# Altium integrated library NSC ADC.IntLib: 493 symbols (part 9 of 17)
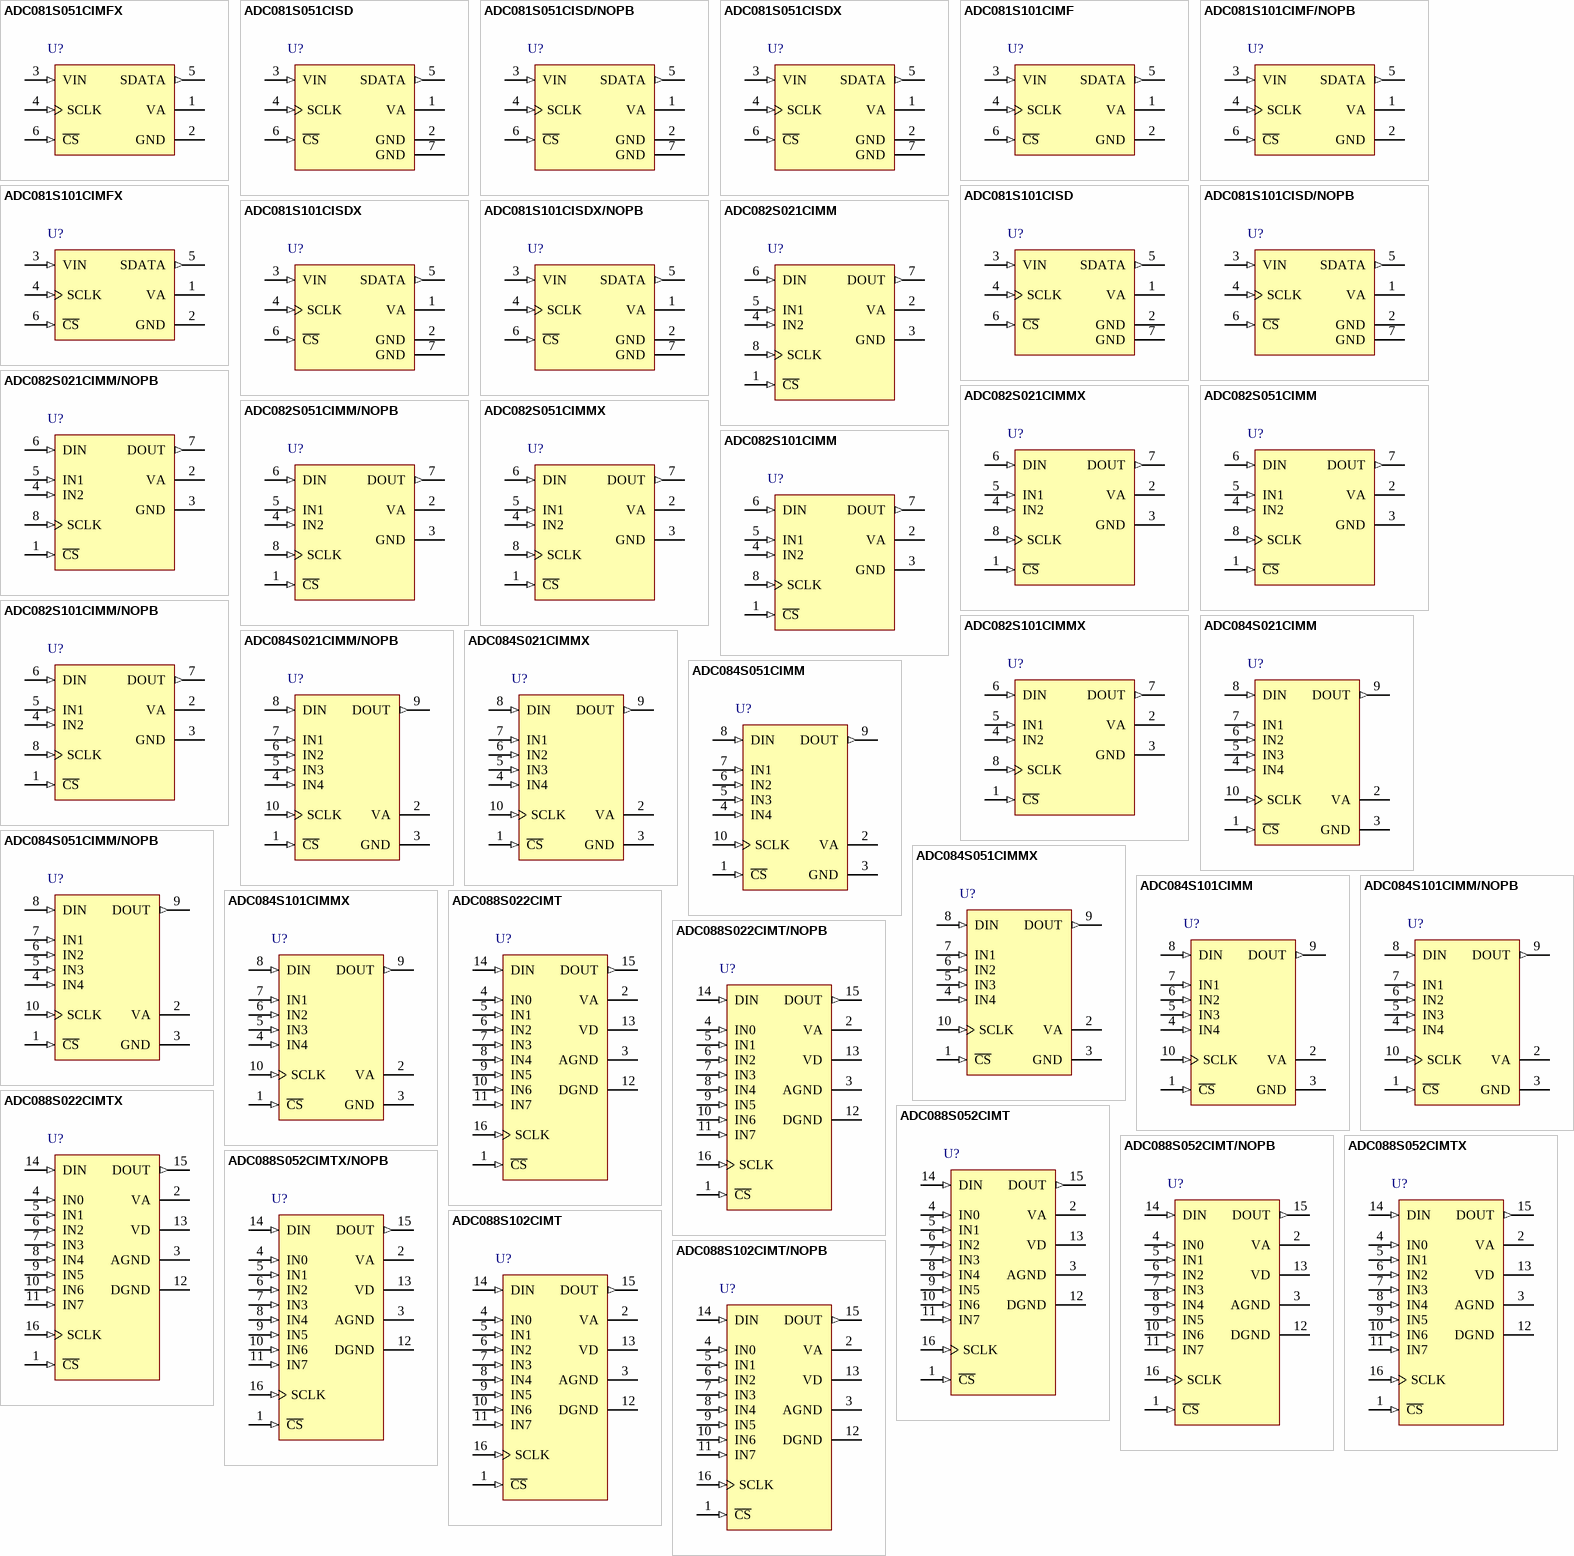
[diagram p44: symbols ADC081S051CIMFX to ADC088S102CIMT/NOPB]

## ADC084S101CIMM
designator U?
4 Channel, 1 MSPS, 8-Bit A/D Converter, 10-pin MSOP; PartNumber: ADC084S101CIMM; Manufacturer: National Semiconductor; PackageTopMarking: ZXTT*X25C; PowerWise: Y; CompType: ADC IC; Published: 4-Dec-2008; DatasheetVersion: Feb-2010; PackageVersion: revB, Jul-2003; PackageReference: MUB10A; Publisher: Altium Limited; PackageDescription: Mini-SO, Molded, .118 x .118 x .034in Body, 10 Lead, .0197in Pitch; Supplier 1: Farnell; Supplier Part Number 1: 1007984; RoHS: N; PinCount: 10; Code_JEDEC: MO-187-BA; ComponentLink1Description: ADC084S101 Datasheet; ComponentLink1URL: http://www.national.com/ds/AD/ADC084S101.pdf; ComponentLink2Description: ADC084S101 Web Page; ComponentLink2URL: http://www.national.com/pf/AD/ADC084S101.html; ComponentLink3Description: MUB10A Package Page; ComponentLink3URL: http://www.national.com/packaging/folders/mub10a.html
footprint MUB10A_N (TSSOP, 10-Leads, Body 3x3mm, Pitch 0.5mm, IPC Medium Density)
footprint MUB10A_L (TSSOP, 10-Leads, Body 3x3mm, Pitch 0.5mm, IPC High Density)
footprint MUB10A_M (TSSOP, 10-Leads, Body 3x3mm, Pitch 0.5mm, IPC Low Density)
pins: 1 ~{CS} (in), 2 VA (power), 3 GND (power), 4 IN4 (in), 5 IN3 (in), 6 IN2 (in), 7 IN1 (in), 8 DIN (in), 9 DOUT (out), 10 SCLK (in)

## ADC084S101CIMM/NOPB
designator U?
4 Channel, 500 kSPS to 1 MSPS, 8-Bit A/D Converter, 10-pin Mini SOIC, Pb-Free; PartNumber: ADC084S101CIMM/NOPB; Manufacturer: National Semiconductor; PackageTopMarking: ZXTT*X25C; PowerWise: Y; CompType: ADC IC; Published: 1-Mar-2010; DatasheetVersion: Feb-2010; PackageVersion: revB, Jul-2003; PackageReference: MUB10A; Publisher: Altium Limited; PackageDescription: Mini-SO, Molded, .118 x .118 x .034in Body, 10 Lead, .0197in Pitch; Supplier 1: Digi-Key; Supplier Part Number 1: ADC084S101CIMMTR-ND; Supplier 2: Digi-Key; Supplier Part Number 2: ADC084S101CIMMCT-ND; Supplier 3: Digi-Key; Supplier Part Number 3: ADC084S101CIMMDKR-ND; Supplier 4: Farnell; Supplier Part Number 4: 1149929; RoHS: Y; PinCount: 10; Code_JEDEC: MO-187-BA; ComponentLink1Description: ADC084S101 Datasheet; ComponentLink1URL: http://www.national.com/ds/AD/ADC084S101.pdf; ComponentLink2Description: ADC084S101 Web Page; ComponentLink2URL: http://www.national.com/pf/AD/ADC084S101.html; ComponentLink3Description: MUB10A Package Page; ComponentLink3URL: http://www.national.com/packaging/folders/mub10a.html
footprint MUB10A_N (TSSOP, 10-Leads, Body 3x3mm, Pitch 0.5mm, IPC Medium Density)
footprint MUB10A_L (TSSOP, 10-Leads, Body 3x3mm, Pitch 0.5mm, IPC High Density)
footprint MUB10A_M (TSSOP, 10-Leads, Body 3x3mm, Pitch 0.5mm, IPC Low Density)
pins: 1 ~{CS} (in), 2 VA (power), 3 GND (power), 4 IN4 (in), 5 IN3 (in), 6 IN2 (in), 7 IN1 (in), 8 DIN (in), 9 DOUT (out), 10 SCLK (in)

## ADC084S101CIMMX
designator U?
4 Channel, 500 kSPS to 1 MSPS, 8-Bit A/D Converter, 10-pin Mini SOIC; PartNumber: ADC084S101CIMMX; Manufacturer: National Semiconductor; PackageTopMarking: ZXTT*X25C; PowerWise: Y; CompType: ADC IC; Published: 1-Mar-2010; DatasheetVersion: Feb-2010; PackageVersion: revB, Jul-2003; PackageReference: MUB10A; Publisher: Altium Limited; PackageDescription: Mini-SO, Molded, .118 x .118 x .034in Body, 10 Lead, .0197in Pitch; RoHS: N; PinCount: 10; Code_JEDEC: MO-187-BA; ComponentLink1Description: ADC084S101 Datasheet; ComponentLink1URL: http://www.national.com/ds/AD/ADC084S101.pdf; ComponentLink2Description: ADC084S101 Web Page; ComponentLink2URL: http://www.national.com/pf/AD/ADC084S101.html; ComponentLink3Description: MUB10A Package Page; ComponentLink3URL: http://www.national.com/packaging/folders/mub10a.html
footprint MUB10A_N (TSSOP, 10-Leads, Body 3x3mm, Pitch 0.5mm, IPC Medium Density)
footprint MUB10A_L (TSSOP, 10-Leads, Body 3x3mm, Pitch 0.5mm, IPC High Density)
footprint MUB10A_M (TSSOP, 10-Leads, Body 3x3mm, Pitch 0.5mm, IPC Low Density)
pins: 1 ~{CS} (in), 2 VA (power), 3 GND (power), 4 IN4 (in), 5 IN3 (in), 6 IN2 (in), 7 IN1 (in), 8 DIN (in), 9 DOUT (out), 10 SCLK (in)

## ADC088S022CIMT
designator U?
8-Channel, 50 kSPS to 200 kSPS, 8-Bit A/D Converter, 16-pin TSSOP; PartNumber: ADC088S022CIMT; Manufacturer: National Semiconductor; PackageTopMarking: NSUZXYTT*88S022*CIMT; PowerWise: Y; CompType: ADC IC; Published: 4-Dec-2008; DatasheetVersion: Feb-2010; PackageVersion: revD, Jun-2003; PackageReference: MTC16; Publisher: Altium Limited; PackageDescription: Molded TSSOP, Jedec, 5 x 4.4 x 0.9mm Body, 16 Lead, 0.65mm Pitch; Supplier 1: Farnell; Supplier Part Number 1: 1250037; RoHS: N; PinCount: 16; Code_JEDEC: MO-153-AB; ComponentLink1Description: ADC088S022 Datasheet; ComponentLink1URL: http://www.national.com/ds/AD/ADC088S022.pdf; ComponentLink2Description: ADC088S022 Web Page; ComponentLink2URL: http://www.national.com/pf/AD/ADC088S022.html; ComponentLink3Description: MTC16 Package Page; ComponentLink3URL: http://www.national.com/packaging/folders/mtc16.html
footprint MTC16_N (TSOP, 16-Leads, Body 5x4.4mm, Pitch 0.65mm, IPC Medium Density)
footprint MTC16_L (TSOP, 16-Leads, Body 5x4.4mm, Pitch 0.65mm, IPC High Density)
footprint MTC16_M (TSOP, 16-Leads, Body 5x4.4mm, Pitch 0.65mm, IPC Low Density)
pins: 1 ~{CS} (in), 2 VA (power), 3 AGND (power), 4 IN0 (in), 5 IN1 (in), 6 IN2 (in), 7 IN3 (in), 8 IN4 (in), 9 IN5 (in), 10 IN6 (in), 11 IN7 (in), 12 DGND (power), 13 VD (power), 14 DIN (in), 15 DOUT (out), 16 SCLK (in)

## ADC088S022CIMT/NOPB
designator U?
8-Channel, 50 kSPS to 200 kSPS, 8-Bit A/D Converter, 16-pin TSSOP, Pb-Free; PartNumber: ADC088S022CIMT/NOPB; Manufacturer: National Semiconductor; PackageTopMarking: NSUZXYTT*88S022*CIMT; PowerWise: Y; CompType: ADC IC; Published: 1-Mar-2010; DatasheetVersion: Feb-2010; PackageVersion: revD, Jun-2003; PackageReference: MTC16; Publisher: Altium Limited; PackageDescription: Molded TSSOP, Jedec, 5 x 4.4 x 0.9mm Body, 16 Lead, 0.65mm Pitch; Supplier 1: Digi-Key; Supplier Part Number 1: ADC088S022CIMT-ND; Supplier 2: Farnell; Supplier Part Number 2: 1559822; RoHS: Y; PinCount: 16; Code_JEDEC: MO-153-AB; ComponentLink1Description: ADC088S022 Datasheet; ComponentLink1URL: http://www.national.com/ds/AD/ADC088S022.pdf; ComponentLink2Description: ADC088S022 Web Page; ComponentLink2URL: http://www.national.com/pf/AD/ADC088S022.html; ComponentLink3Description: MTC16 Package Page; ComponentLink3URL: http://www.national.com/packaging/folders/mtc16.html
footprint MTC16_N (TSOP, 16-Leads, Body 5x4.4mm, Pitch 0.65mm, IPC Medium Density)
footprint MTC16_L (TSOP, 16-Leads, Body 5x4.4mm, Pitch 0.65mm, IPC High Density)
footprint MTC16_M (TSOP, 16-Leads, Body 5x4.4mm, Pitch 0.65mm, IPC Low Density)
pins: 1 ~{CS} (in), 2 VA (power), 3 AGND (power), 4 IN0 (in), 5 IN1 (in), 6 IN2 (in), 7 IN3 (in), 8 IN4 (in), 9 IN5 (in), 10 IN6 (in), 11 IN7 (in), 12 DGND (power), 13 VD (power), 14 DIN (in), 15 DOUT (out), 16 SCLK (in)

## ADC088S022CIMTX
designator U?
8-Channel, 50 kSPS to 200 kSPS, 8-Bit A/D Converter, 16-pin TSSOP; PartNumber: ADC088S022CIMTX; Manufacturer: National Semiconductor; PackageTopMarking: NSUZXYTT*88S022*CIMT; PowerWise: Y; CompType: ADC IC; Published: 1-Mar-2010; DatasheetVersion: Feb-2010; PackageVersion: revD, Jun-2003; PackageReference: MTC16; Publisher: Altium Limited; PackageDescription: Molded TSSOP, Jedec, 5 x 4.4 x 0.9mm Body, 16 Lead, 0.65mm Pitch; RoHS: N; PinCount: 16; Code_JEDEC: MO-153-AB; ComponentLink1Description: ADC088S022 Datasheet; ComponentLink1URL: http://www.national.com/ds/AD/ADC088S022.pdf; ComponentLink2Description: ADC088S022 Web Page; ComponentLink2URL: http://www.national.com/pf/AD/ADC088S022.html; ComponentLink3Description: MTC16 Package Page; ComponentLink3URL: http://www.national.com/packaging/folders/mtc16.html
footprint MTC16_N (TSOP, 16-Leads, Body 5x4.4mm, Pitch 0.65mm, IPC Medium Density)
footprint MTC16_L (TSOP, 16-Leads, Body 5x4.4mm, Pitch 0.65mm, IPC High Density)
footprint MTC16_M (TSOP, 16-Leads, Body 5x4.4mm, Pitch 0.65mm, IPC Low Density)
pins: 1 ~{CS} (in), 2 VA (power), 3 AGND (power), 4 IN0 (in), 5 IN1 (in), 6 IN2 (in), 7 IN3 (in), 8 IN4 (in), 9 IN5 (in), 10 IN6 (in), 11 IN7 (in), 12 DGND (power), 13 VD (power), 14 DIN (in), 15 DOUT (out), 16 SCLK (in)

## ADC088S052CIMT
designator U?
8-Channel, 200 kSPS to 500 kSPS, 8-Bit A/D Converter, 16-pin TSSOP; PartNumber: ADC088S052CIMT; Manufacturer: National Semiconductor; PackageTopMarking: NSUZXYTT*088S052*CIMT; PowerWise: Y; CompType: ADC IC; Published: 4-Dec-2008; DatasheetVersion: Feb-2010; PackageVersion: revD, Jun-2003; PackageReference: MTC16; Publisher: Altium Limited; PackageDescription: Molded TSSOP, Jedec, 5 x 4.4 x 0.9mm Body, 16 Lead, 0.65mm Pitch; Supplier 1: Farnell; Supplier Part Number 1: 1250038; RoHS: N; PinCount: 16; Code_JEDEC: MO-153-AB; ComponentLink1Description: ADC088S052 Datasheet; ComponentLink1URL: http://www.national.com/ds/AD/ADC088S052.pdf; ComponentLink2Description: ADC088S052 Web Page; ComponentLink2URL: http://www.national.com/pf/AD/ADC088S052.html; ComponentLink3Description: MTC16 Package Page; ComponentLink3URL: http://www.national.com/packaging/folders/mtc16.html
footprint MTC16_N (TSOP, 16-Leads, Body 5x4.4mm, Pitch 0.65mm, IPC Medium Density)
footprint MTC16_L (TSOP, 16-Leads, Body 5x4.4mm, Pitch 0.65mm, IPC High Density)
footprint MTC16_M (TSOP, 16-Leads, Body 5x4.4mm, Pitch 0.65mm, IPC Low Density)
pins: 1 ~{CS} (in), 2 VA (power), 3 AGND (power), 4 IN0 (in), 5 IN1 (in), 6 IN2 (in), 7 IN3 (in), 8 IN4 (in), 9 IN5 (in), 10 IN6 (in), 11 IN7 (in), 12 DGND (power), 13 VD (power), 14 DIN (in), 15 DOUT (out), 16 SCLK (in)

## ADC088S052CIMT/NOPB
designator U?
8-Channel, 200 kSPS to 500 kSPS, 8-Bit A/D Converter, 16-pin TSSOP, Pb-Free; PartNumber: ADC088S052CIMT/NOPB; Manufacturer: National Semiconductor; PackageTopMarking: NSUZXYTT*088S052*CIMT; PowerWise: Y; CompType: ADC IC; Published: 1-Mar-2010; DatasheetVersion: Feb-2010; PackageVersion: revD, Jun-2003; PackageReference: MTC16; Publisher: Altium Limited; PackageDescription: Molded TSSOP, Jedec, 5 x 4.4 x 0.9mm Body, 16 Lead, 0.65mm Pitch; Supplier 1: Digi-Key; Supplier Part Number 1: ADC088S052CIMT-ND; RoHS: Y; PinCount: 16; Code_JEDEC: MO-153-AB; ComponentLink1Description: ADC088S052 Datasheet; ComponentLink1URL: http://www.national.com/ds/AD/ADC088S052.pdf; ComponentLink2Description: ADC088S052 Web Page; ComponentLink2URL: http://www.national.com/pf/AD/ADC088S052.html; ComponentLink3Description: MTC16 Package Page; ComponentLink3URL: http://www.national.com/packaging/folders/mtc16.html
footprint MTC16_N (TSOP, 16-Leads, Body 5x4.4mm, Pitch 0.65mm, IPC Medium Density)
footprint MTC16_L (TSOP, 16-Leads, Body 5x4.4mm, Pitch 0.65mm, IPC High Density)
footprint MTC16_M (TSOP, 16-Leads, Body 5x4.4mm, Pitch 0.65mm, IPC Low Density)
pins: 1 ~{CS} (in), 2 VA (power), 3 AGND (power), 4 IN0 (in), 5 IN1 (in), 6 IN2 (in), 7 IN3 (in), 8 IN4 (in), 9 IN5 (in), 10 IN6 (in), 11 IN7 (in), 12 DGND (power), 13 VD (power), 14 DIN (in), 15 DOUT (out), 16 SCLK (in)

## ADC088S052CIMTX
designator U?
8-Channel, 200 kSPS to 500 kSPS, 8-Bit A/D Converter, 16-pin TSSOP; PartNumber: ADC088S052CIMTX; Manufacturer: National Semiconductor; PackageTopMarking: NSUZXYTT*088S052*CIMT; PowerWise: Y; CompType: ADC IC; Published: 1-Mar-2010; DatasheetVersion: Feb-2010; PackageVersion: revD, Jun-2003; PackageReference: MTC16; Publisher: Altium Limited; PackageDescription: Molded TSSOP, Jedec, 5 x 4.4 x 0.9mm Body, 16 Lead, 0.65mm Pitch; RoHS: N; PinCount: 16; Code_JEDEC: MO-153-AB; ComponentLink1Description: ADC088S052 Datasheet; ComponentLink1URL: http://www.national.com/ds/AD/ADC088S052.pdf; ComponentLink2Description: ADC088S052 Web Page; ComponentLink2URL: http://www.national.com/pf/AD/ADC088S052.html; ComponentLink3Description: MTC16 Package Page; ComponentLink3URL: http://www.national.com/packaging/folders/mtc16.html
footprint MTC16_N (TSOP, 16-Leads, Body 5x4.4mm, Pitch 0.65mm, IPC Medium Density)
footprint MTC16_L (TSOP, 16-Leads, Body 5x4.4mm, Pitch 0.65mm, IPC High Density)
footprint MTC16_M (TSOP, 16-Leads, Body 5x4.4mm, Pitch 0.65mm, IPC Low Density)
pins: 1 ~{CS} (in), 2 VA (power), 3 AGND (power), 4 IN0 (in), 5 IN1 (in), 6 IN2 (in), 7 IN3 (in), 8 IN4 (in), 9 IN5 (in), 10 IN6 (in), 11 IN7 (in), 12 DGND (power), 13 VD (power), 14 DIN (in), 15 DOUT (out), 16 SCLK (in)

## ADC088S052CIMTX/NOPB
designator U?
8-Channel, 200 kSPS to 500 kSPS, 8-Bit A/D Converter, 16-pin TSSOP, Pb-Free; PartNumber: ADC088S052CIMTX/NOPB; Manufacturer: National Semiconductor; PackageTopMarking: NSUZXYTT*088S052*CIMT; PowerWise: Y; CompType: ADC IC; Published: 1-Mar-2010; DatasheetVersion: Feb-2010; PackageVersion: revD, Jun-2003; PackageReference: MTC16; Publisher: Altium Limited; PackageDescription: Molded TSSOP, Jedec, 5 x 4.4 x 0.9mm Body, 16 Lead, 0.65mm Pitch; Supplier 1: Digi-Key; Supplier Part Number 1: ADC088S052CIMTX-ND; RoHS: Y; PinCount: 16; Code_JEDEC: MO-153-AB; ComponentLink1Description: ADC088S052 Datasheet; ComponentLink1URL: http://www.national.com/ds/AD/ADC088S052.pdf; ComponentLink2Description: ADC088S052 Web Page; ComponentLink2URL: http://www.national.com/pf/AD/ADC088S052.html; ComponentLink3Description: MTC16 Package Page; ComponentLink3URL: http://www.national.com/packaging/folders/mtc16.html
footprint MTC16_N (TSOP, 16-Leads, Body 5x4.4mm, Pitch 0.65mm, IPC Medium Density)
footprint MTC16_L (TSOP, 16-Leads, Body 5x4.4mm, Pitch 0.65mm, IPC High Density)
footprint MTC16_M (TSOP, 16-Leads, Body 5x4.4mm, Pitch 0.65mm, IPC Low Density)
pins: 1 ~{CS} (in), 2 VA (power), 3 AGND (power), 4 IN0 (in), 5 IN1 (in), 6 IN2 (in), 7 IN3 (in), 8 IN4 (in), 9 IN5 (in), 10 IN6 (in), 11 IN7 (in), 12 DGND (power), 13 VD (power), 14 DIN (in), 15 DOUT (out), 16 SCLK (in)

## ADC088S102CIMT
designator U?
8-Channel, 500 kSPS to 1 MSPS, 8-Bit A/D Converter, 16-pin TSSOP; PartNumber: ADC088S102CIMT; Manufacturer: National Semiconductor; PackageTopMarking: NSUZXYTT*088S102*CIMT; PowerWise: Y; CompType: ADC IC; Published: 4-Dec-2008; DatasheetVersion: Sep-2005; PackageVersion: revD, Jun-2003; PackageReference: MTC16; Publisher: Altium Limited; PackageDescription: Molded TSSOP, Jedec, 5 x 4.4 x 0.9mm Body, 16 Lead, 0.65mm Pitch; Supplier 1: Farnell; Supplier Part Number 1: 1286724; RoHS: N; PinCount: 16; Code_JEDEC: MO-153-AB; ComponentLink1Description: ADC088S102 Datasheet; ComponentLink1URL: http://www.national.com/ds/AD/ADC088S102.pdf; ComponentLink2Description: ADC088S102 Web Page; ComponentLink2URL: http://www.national.com/pf/AD/ADC088S102.html; ComponentLink3Description: MTC16 Package Page; ComponentLink3URL: http://www.national.com/packaging/folders/mtc16.html
footprint MTC16_N (TSOP, 16-Leads, Body 5x4.4mm, Pitch 0.65mm, IPC Medium Density)
footprint MTC16_L (TSOP, 16-Leads, Body 5x4.4mm, Pitch 0.65mm, IPC High Density)
footprint MTC16_M (TSOP, 16-Leads, Body 5x4.4mm, Pitch 0.65mm, IPC Low Density)
pins: 1 ~{CS} (in), 2 VA (power), 3 AGND (power), 4 IN0 (in), 5 IN1 (in), 6 IN2 (in), 7 IN3 (in), 8 IN4 (in), 9 IN5 (in), 10 IN6 (in), 11 IN7 (in), 12 DGND (power), 13 VD (power), 14 DIN (in), 15 DOUT (out), 16 SCLK (in)

## ADC088S102CIMT/NOPB
designator U?
8-Channel, 500 kSPS to 1 MSPS, 8-Bit A/D Converter, 16-pin TSSOP, Pb-Free; PartNumber: ADC088S102CIMT/NOPB; Manufacturer: National Semiconductor; PackageTopMarking: NSUZXYTT*088S102*CIMT; PowerWise: Y; CompType: ADC IC; Published: 1-Mar-2010; DatasheetVersion: Sep-2005; PackageVersion: revD, Jun-2003; PackageReference: MTC16; Publisher: Altium Limited; PackageDescription: Molded TSSOP, Jedec, 5 x 4.4 x 0.9mm Body, 16 Lead, 0.65mm Pitch; Supplier 1: Digi-Key; Supplier Part Number 1: ADC088S102CIMT-ND; RoHS: Y; PinCount: 16; Code_JEDEC: MO-153-AB; ComponentLink1Description: ADC088S102 Datasheet; ComponentLink1URL: http://www.national.com/ds/AD/ADC088S102.pdf; ComponentLink2Description: ADC088S102 Web Page; ComponentLink2URL: http://www.national.com/pf/AD/ADC088S102.html; ComponentLink3Description: MTC16 Package Page; ComponentLink3URL: http://www.national.com/packaging/folders/mtc16.html
footprint MTC16_N (TSOP, 16-Leads, Body 5x4.4mm, Pitch 0.65mm, IPC Medium Density)
footprint MTC16_L (TSOP, 16-Leads, Body 5x4.4mm, Pitch 0.65mm, IPC High Density)
footprint MTC16_M (TSOP, 16-Leads, Body 5x4.4mm, Pitch 0.65mm, IPC Low Density)
pins: 1 ~{CS} (in), 2 VA (power), 3 AGND (power), 4 IN0 (in), 5 IN1 (in), 6 IN2 (in), 7 IN3 (in), 8 IN4 (in), 9 IN5 (in), 10 IN6 (in), 11 IN7 (in), 12 DGND (power), 13 VD (power), 14 DIN (in), 15 DOUT (out), 16 SCLK (in)

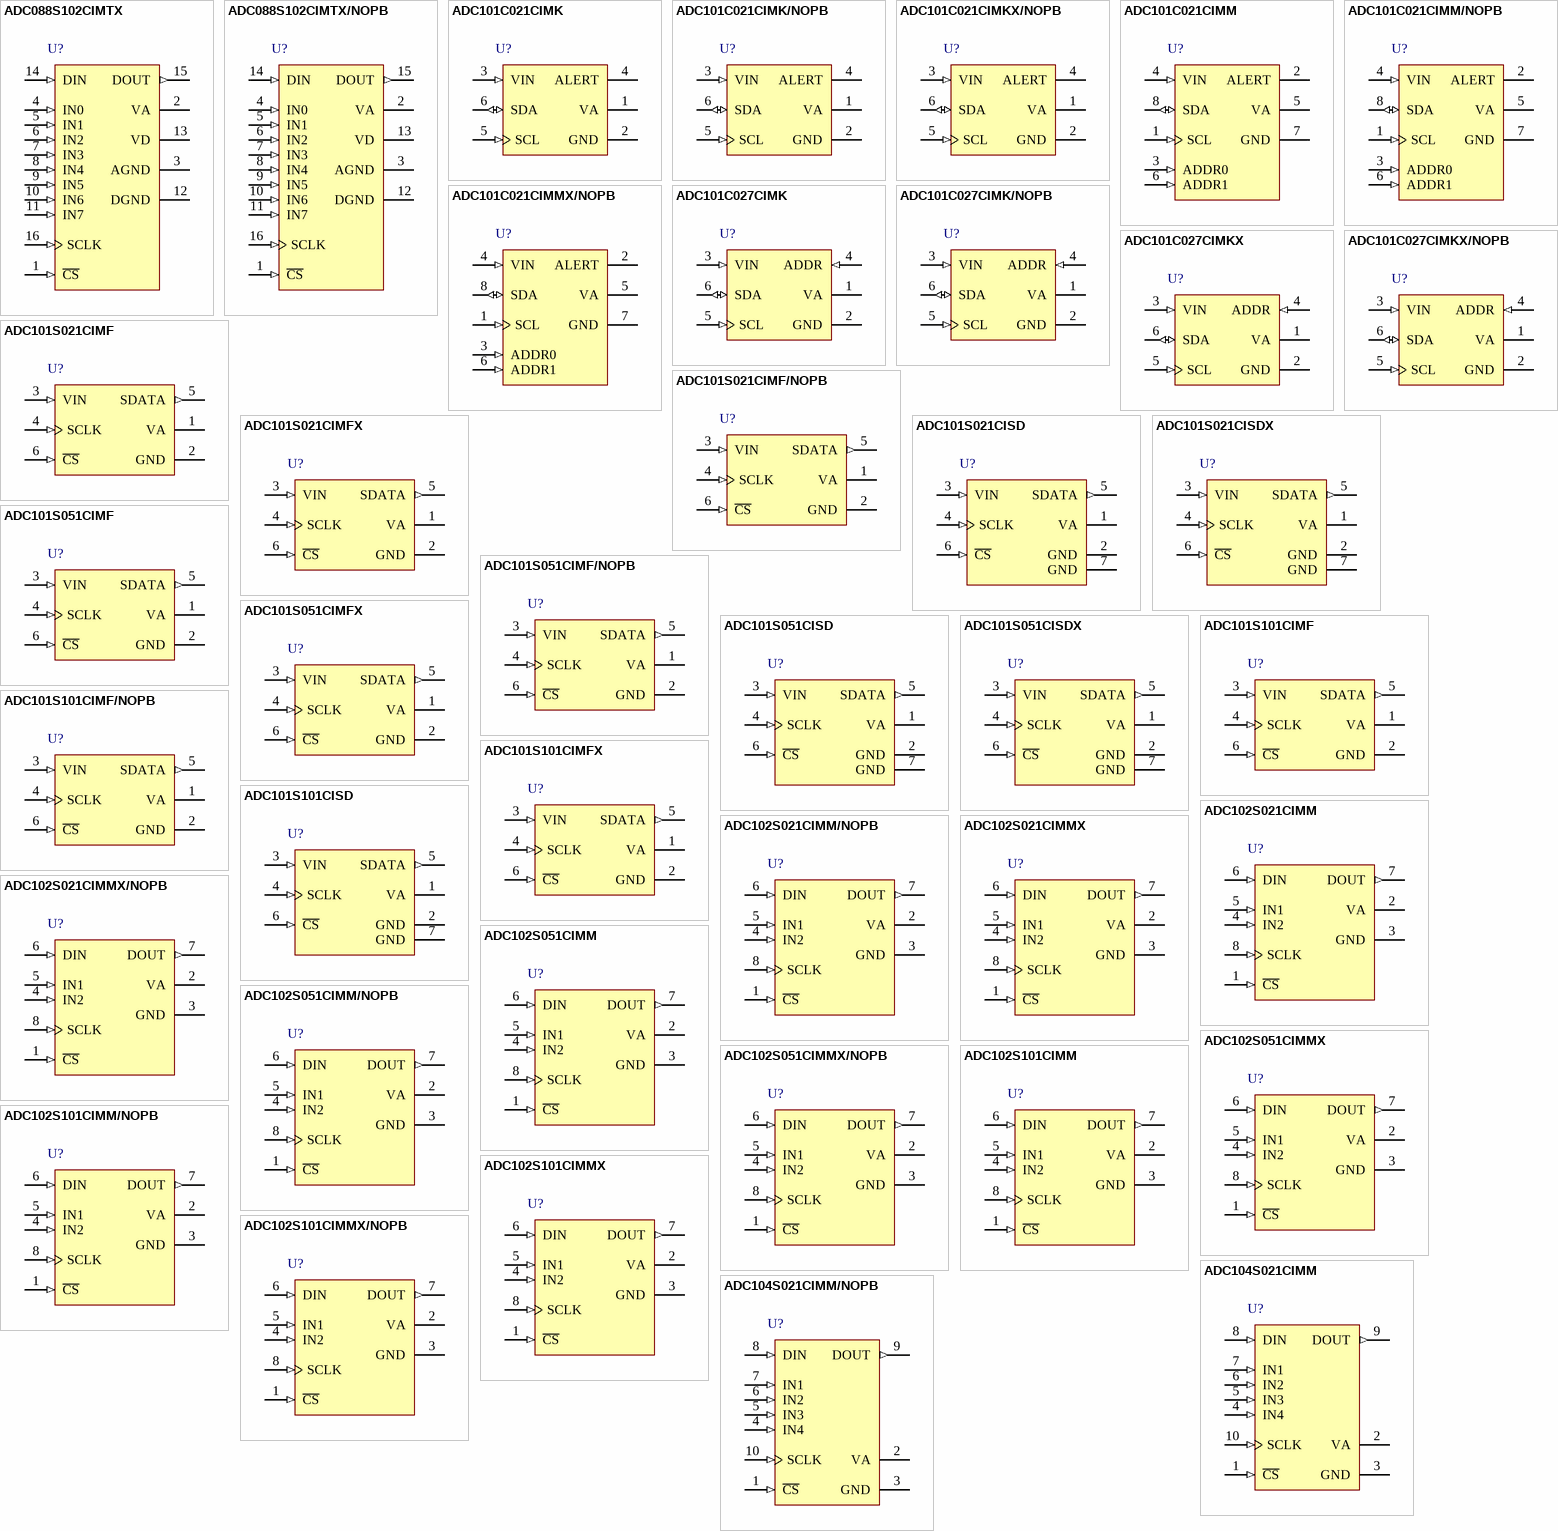
[diagram p24: symbols ADC088S102CIMTX to ADC104S021CIMM/NOPB]

## ADC088S102CIMTX
designator U?
8-Channel, 500 kSPS to 1 MSPS, 8-Bit A/D Converter, 16-pin TSSOP; PartNumber: ADC088S102CIMTX; Manufacturer: National Semiconductor; PackageTopMarking: NSUZXYTT*088S102*CIMT; PowerWise: Y; CompType: ADC IC; Published: 1-Mar-2010; DatasheetVersion: Sep-2005; PackageVersion: revD, Jun-2003; PackageReference: MTC16; Publisher: Altium Limited; PackageDescription: Molded TSSOP, Jedec, 5 x 4.4 x 0.9mm Body, 16 Lead, 0.65mm Pitch; RoHS: N; PinCount: 16; Code_JEDEC: MO-153-AB; ComponentLink1Description: ADC088S102 Datasheet; ComponentLink1URL: http://www.national.com/ds/AD/ADC088S102.pdf; ComponentLink2Description: ADC088S102 Web Page; ComponentLink2URL: http://www.national.com/pf/AD/ADC088S102.html; ComponentLink3Description: MTC16 Package Page; ComponentLink3URL: http://www.national.com/packaging/folders/mtc16.html
footprint MTC16_N (TSOP, 16-Leads, Body 5x4.4mm, Pitch 0.65mm, IPC Medium Density)
footprint MTC16_L (TSOP, 16-Leads, Body 5x4.4mm, Pitch 0.65mm, IPC High Density)
footprint MTC16_M (TSOP, 16-Leads, Body 5x4.4mm, Pitch 0.65mm, IPC Low Density)
pins: 1 ~{CS} (in), 2 VA (power), 3 AGND (power), 4 IN0 (in), 5 IN1 (in), 6 IN2 (in), 7 IN3 (in), 8 IN4 (in), 9 IN5 (in), 10 IN6 (in), 11 IN7 (in), 12 DGND (power), 13 VD (power), 14 DIN (in), 15 DOUT (out), 16 SCLK (in)

## ADC088S102CIMTX/NOPB
designator U?
8-Channel, 500 kSPS to 1 MSPS, 8-Bit A/D Converter, 16-pin TSSOP, Pb-Free; PartNumber: ADC088S102CIMTX/NOPB; Manufacturer: National Semiconductor; PackageTopMarking: NSUZXYTT*088S102*CIMT; PowerWise: Y; CompType: ADC IC; Published: 1-Mar-2010; DatasheetVersion: Sep-2005; PackageVersion: revD, Jun-2003; PackageReference: MTC16; Publisher: Altium Limited; PackageDescription: Molded TSSOP, Jedec, 5 x 4.4 x 0.9mm Body, 16 Lead, 0.65mm Pitch; Supplier 1: Digi-Key; Supplier Part Number 1: ADC088S102CIMTX-ND; RoHS: Y; PinCount: 16; Code_JEDEC: MO-153-AB; ComponentLink1Description: ADC088S102 Datasheet; ComponentLink1URL: http://www.national.com/ds/AD/ADC088S102.pdf; ComponentLink2Description: ADC088S102 Web Page; ComponentLink2URL: http://www.national.com/pf/AD/ADC088S102.html; ComponentLink3Description: MTC16 Package Page; ComponentLink3URL: http://www.national.com/packaging/folders/mtc16.html
footprint MTC16_N (TSOP, 16-Leads, Body 5x4.4mm, Pitch 0.65mm, IPC Medium Density)
footprint MTC16_L (TSOP, 16-Leads, Body 5x4.4mm, Pitch 0.65mm, IPC High Density)
footprint MTC16_M (TSOP, 16-Leads, Body 5x4.4mm, Pitch 0.65mm, IPC Low Density)
pins: 1 ~{CS} (in), 2 VA (power), 3 AGND (power), 4 IN0 (in), 5 IN1 (in), 6 IN2 (in), 7 IN3 (in), 8 IN4 (in), 9 IN5 (in), 10 IN6 (in), 11 IN7 (in), 12 DGND (power), 13 VD (power), 14 DIN (in), 15 DOUT (out), 16 SCLK (in)

## ADC101C021CIMK
designator U?
I2C-Compatible, 10-Bit Analog-to-Digital Converter (ADC) with Alert Pin, 6-pin Tiny SOT23; PartNumber: ADC101C021CIMK; Manufacturer: National Semiconductor; PackageTopMarking: X33C*XTT; PowerWise: N; CompType: ADC IC; Published: 4-Dec-2008; DatasheetVersion: Mar-2009; PackageVersion: revE, Nov-2008; PackageReference: MK06A; Publisher: Altium Limited; PackageDescription: Molded TSOT, 2.97 x 1.65 x 0.87mm Body, 6 Lead, 0.95mm Pitch; RoHS: Y; PinCount: 6; Code_JEDEC: MO-193-AA; Code_IPC: SOT26A-6; ComponentLink1Description: ADC101C021 Datasheet; ComponentLink1URL: http://www.national.com/ds/AD/ADC101C021.pdf; ComponentLink2Description: ADC101C021 Web Page; ComponentLink2URL: http://www.national.com/pf/AD/ADC101C021.html; ComponentLink3Description: MK06A Package Page; ComponentLink3URL: http://www.national.com/packaging/folders/mk06a.html
footprint MK06A_N (SOT23, 6-Leads, Body 3.0x1.7mm, Pitch 0.95mm, Lead Span 2.9mm, IPC Medium Density)
footprint MK06A_L (SOT23, 6-Leads, Body 3.0x1.7mm, Pitch 0.95mm, Lead Span 2.9mm, IPC High Density)
footprint MK06A_M (SOT23, 6-Leads, Body 3.0x1.7mm, Pitch 0.95mm, Lead Span 2.9mm, IPC Low Density)
pins: 1 VA (power), 2 GND (power), 3 VIN (in), 4 ALERT (oc), 5 SCL (in), 6 SDA (io)

## ADC101C021CIMK/NOPB
designator U?
I2C-Compatible, 10-Bit Analog-to-Digital Converter (ADC) with Alert Pin, 6-pin Tiny SOT23, Pb-Free; PartNumber: ADC101C021CIMK/NOPB; Manufacturer: National Semiconductor; PackageTopMarking: X33C*XTT; PowerWise: N; CompType: ADC IC; Published: 1-Mar-2010; DatasheetVersion: Mar-2009; PackageVersion: revE, Nov-2008; PackageReference: MK06A; Publisher: Altium Limited; PackageDescription: Molded TSOT, 2.97 x 1.65 x 0.87mm Body, 6 Lead, 0.95mm Pitch; Supplier 1: Digi-Key; Supplier Part Number 1: ADC101C021CIMKTR-ND; Supplier 2: Digi-Key; Supplier Part Number 2: ADC101C021CIMKCT-ND; Supplier 3: Digi-Key; Supplier Part Number 3: ADC101C021CIMKDKR-ND; Supplier 4: Farnell; Supplier Part Number 4: 1674012; RoHS: Y; PinCount: 6; Code_JEDEC: MO-193-AA; Code_IPC: SOT26A-6; ComponentLink1Description: ADC101C021 Datasheet; ComponentLink1URL: http://www.national.com/ds/AD/ADC101C021.pdf; ComponentLink2Description: ADC101C021 Web Page; ComponentLink2URL: http://www.national.com/pf/AD/ADC101C021.html; ComponentLink3Description: MK06A Package Page; ComponentLink3URL: http://www.national.com/packaging/folders/mk06a.html
footprint MK06A_N (SOT23, 6-Leads, Body 3.0x1.7mm, Pitch 0.95mm, Lead Span 2.9mm, IPC Medium Density)
footprint MK06A_L (SOT23, 6-Leads, Body 3.0x1.7mm, Pitch 0.95mm, Lead Span 2.9mm, IPC High Density)
footprint MK06A_M (SOT23, 6-Leads, Body 3.0x1.7mm, Pitch 0.95mm, Lead Span 2.9mm, IPC Low Density)
pins: 1 VA (power), 2 GND (power), 3 VIN (in), 4 ALERT (oc), 5 SCL (in), 6 SDA (io)

## ADC101C021CIMKX/NOPB
designator U?
I2C-Compatible, 10-Bit Analog-to-Digital Converter (ADC) with Alert Pin, 6-pin Tiny SOT23, Pb-Free; PartNumber: ADC101C021CIMKX/NOPB; Manufacturer: National Semiconductor; PackageTopMarking: X33C*XTT; PowerWise: N; CompType: ADC IC; Published: 1-Mar-2010; DatasheetVersion: Mar-2009; PackageVersion: revE, Nov-2008; PackageReference: MK06A; Publisher: Altium Limited; PackageDescription: Molded TSOT, 2.97 x 1.65 x 0.87mm Body, 6 Lead, 0.95mm Pitch; Supplier 1: Digi-Key; Supplier Part Number 1: ADC101C021CIMKX-ND; RoHS: Y; PinCount: 6; Code_JEDEC: MO-193-AA; Code_IPC: SOT26A-6; ComponentLink1Description: ADC101C021 Datasheet; ComponentLink1URL: http://www.national.com/ds/AD/ADC101C021.pdf; ComponentLink2Description: ADC101C021 Web Page; ComponentLink2URL: http://www.national.com/pf/AD/ADC101C021.html; ComponentLink3Description: MK06A Package Page; ComponentLink3URL: http://www.national.com/packaging/folders/mk06a.html
footprint MK06A_N (SOT23, 6-Leads, Body 3.0x1.7mm, Pitch 0.95mm, Lead Span 2.9mm, IPC Medium Density)
footprint MK06A_L (SOT23, 6-Leads, Body 3.0x1.7mm, Pitch 0.95mm, Lead Span 2.9mm, IPC High Density)
footprint MK06A_M (SOT23, 6-Leads, Body 3.0x1.7mm, Pitch 0.95mm, Lead Span 2.9mm, IPC Low Density)
pins: 1 VA (power), 2 GND (power), 3 VIN (in), 4 ALERT (oc), 5 SCL (in), 6 SDA (io)

## ADC101C021CIMM
designator U?
I2C-Compatible, 10-Bit Analog-to-Digital Converter (ADC) with Alert Pin, 8-pin Mini SOIC; PartNumber: ADC101C021CIMM; Manufacturer: National Semiconductor; PackageTopMarking: ZXTT*X38C; PowerWise: N; CompType: ADC IC; Published: 29-May-2009; DatasheetVersion: Mar-2009; PackageVersion: revF, Apr-2008; PackageReference: MUA08A; Publisher: Altium Limited; PackageDescription: MINI SOIC, .118 x .118 x .034in, 8 Lead, .0256in Pitch; RoHS: Y; PinCount: 8; Code_JEDEC: MO-187-AA; ComponentLink1Description: ADC101C021 Datasheet; ComponentLink1URL: http://www.national.com/ds/AD/ADC081C021.pdf; ComponentLink2Description: ADC101C021 Web Page; ComponentLink2URL: http://www.national.com/pf/AD/ADC101C021.html; ComponentLink3Description: MUA08A Package Page; ComponentLink3URL: http://www.national.com/packaging/folders/mua08a.html
footprint MUA08A_N (TSOP, 8-Leads, Body 3x3mm, Pitch 0.65mm, IPC Medium Density)
footprint MUA08A_L (TSOP, 8-Leads, Body 3x3mm, Pitch 0.65mm, IPC High Density)
footprint MUA08A_M (TSOP, 8-Leads, Body 3x3mm, Pitch 0.65mm, IPC Low Density)
pins: 1 SCL (in), 2 ALERT (oc), 3 ADDR0 (in), 4 VIN (in), 5 VA (power), 6 ADDR1 (in), 7 GND (power), 8 SDA (io)

## ADC101C021CIMM/NOPB
designator U?
I2C-Compatible, 10-Bit Analog-to-Digital Converter (ADC) with Alert Pin, 8-pin Mini SOIC, Pb-Free; PartNumber: ADC101C021CIMM/NOPB; Manufacturer: National Semiconductor; PackageTopMarking: ZXTT*X38C; PowerWise: N; CompType: ADC IC; Published: 1-Mar-2010; DatasheetVersion: Mar-2009; PackageVersion: revF, Apr-2008; PackageReference: MUA08A; Publisher: Altium Limited; PackageDescription: MINI SOIC, .118 x .118 x .034in, 8 Lead, .0256in Pitch; Supplier 1: Digi-Key; Supplier Part Number 1: ADC101C021CIMMTR-ND; Supplier 2: Digi-Key; Supplier Part Number 2: ADC101C021CIMMCT-ND; Supplier 3: Digi-Key; Supplier Part Number 3: ADC101C021CIMMDKR-ND; Supplier 4: Farnell; Supplier Part Number 4: 1714816; RoHS: Y; PinCount: 8; Code_JEDEC: MO-187-AA; ComponentLink1Description: ADC101C021 Datasheet; ComponentLink1URL: http://www.national.com/ds/AD/ADC101C021.pdf; ComponentLink2Description: ADC101C021 Web Page; ComponentLink2URL: http://www.national.com/pf/AD/ADC101C021.html; ComponentLink3Description: MUA08A Package Page; ComponentLink3URL: http://www.national.com/packaging/folders/mua08a.html
footprint MUA08A_N (TSOP, 8-Leads, Body 3x3mm, Pitch 0.65mm, IPC Medium Density)
footprint MUA08A_L (TSOP, 8-Leads, Body 3x3mm, Pitch 0.65mm, IPC High Density)
footprint MUA08A_M (TSOP, 8-Leads, Body 3x3mm, Pitch 0.65mm, IPC Low Density)
pins: 1 SCL (in), 2 ALERT (oc), 3 ADDR0 (in), 4 VIN (in), 5 VA (power), 6 ADDR1 (in), 7 GND (power), 8 SDA (io)

## ADC101C021CIMMX/NOPB
designator U?
I2C-Compatible, 10-Bit Analog-to-Digital Converter (ADC) with Alert Pin, 8-pin Mini SOIC, Pb-Free; PartNumber: ADC101C021CIMMX/NOPB; Manufacturer: National Semiconductor; PackageTopMarking: ZXTT*X38C; PowerWise: N; CompType: ADC IC; Published: 1-Mar-2010; DatasheetVersion: Mar-2009; PackageVersion: revF, Apr-2008; PackageReference: MUA08A; Publisher: Altium Limited; PackageDescription: MINI SOIC, .118 x .118 x .034in, 8 Lead, .0256in Pitch; Supplier 1: Digi-Key; Supplier Part Number 1: ADC101C021CIMMX-ND; RoHS: Y; PinCount: 8; Code_JEDEC: MO-187-AA; ComponentLink1Description: ADC101C021 Datasheet; ComponentLink1URL: http://www.national.com/ds/AD/ADC101C021.pdf; ComponentLink2Description: ADC101C021 Web Page; ComponentLink2URL: http://www.national.com/pf/AD/ADC101C021.html; ComponentLink3Description: MUA08A Package Page; ComponentLink3URL: http://www.national.com/packaging/folders/mua08a.html
footprint MUA08A_N (TSOP, 8-Leads, Body 3x3mm, Pitch 0.65mm, IPC Medium Density)
footprint MUA08A_L (TSOP, 8-Leads, Body 3x3mm, Pitch 0.65mm, IPC High Density)
footprint MUA08A_M (TSOP, 8-Leads, Body 3x3mm, Pitch 0.65mm, IPC Low Density)
pins: 1 SCL (in), 2 ALERT (oc), 3 ADDR0 (in), 4 VIN (in), 5 VA (power), 6 ADDR1 (in), 7 GND (power), 8 SDA (io)

## ADC101C027CIMK
designator U?
I2C-Compatible, 10-Bit Analog-to-Digital Converter (ADC) with Alert Function, 6-pin Tiny SOT23; PartNumber: ADC101C027CIMK; Manufacturer: National Semiconductor; PackageTopMarking: X32C*XTT; PowerWise: N; CompType: ADC IC; Published: 4-Dec-2008; DatasheetVersion: Feb-2008; PackageVersion: revE, Nov-2008; PackageReference: MK06A; Publisher: Altium Limited; PackageDescription: Molded TSOT, 2.97 x 1.65 x 0.87mm Body, 6 Lead, 0.95mm Pitch; RoHS: Y; PinCount: 6; Code_JEDEC: MO-193-AA; Code_IPC: SOT26A-6; ComponentLink1Description: ADC101C027 Datasheet; ComponentLink1URL: http://www.national.com/ds/AD/ADC101C027.pdf; ComponentLink2Description: ADC101C027 Web Page; ComponentLink2URL: http://www.national.com/pf/AD/ADC101C027.html; ComponentLink3Description: MK06A Package Page; ComponentLink3URL: http://www.national.com/packaging/folders/mk06a.html
footprint MK06A_N (SOT23, 6-Leads, Body 3.0x1.7mm, Pitch 0.95mm, Lead Span 2.9mm, IPC Medium Density)
footprint MK06A_L (SOT23, 6-Leads, Body 3.0x1.7mm, Pitch 0.95mm, Lead Span 2.9mm, IPC High Density)
footprint MK06A_M (SOT23, 6-Leads, Body 3.0x1.7mm, Pitch 0.95mm, Lead Span 2.9mm, IPC Low Density)
pins: 1 VA (power), 2 GND (power), 3 VIN (in), 4 ADDR (in), 5 SCL (in), 6 SDA (io)

## ADC101C027CIMK/NOPB
designator U?
I2C-Compatible, 10-Bit Analog-to-Digital Converter (ADC) with Alert Function, 6-pin Tiny SOT23, Pb-Free; PartNumber: ADC101C027CIMK/NOPB; Manufacturer: National Semiconductor; PackageTopMarking: X32C*XTT; PowerWise: N; CompType: ADC IC; Published: 1-Mar-2010; DatasheetVersion: Feb-2008; PackageVersion: revE, Nov-2008; PackageReference: MK06A; Publisher: Altium Limited; PackageDescription: Molded TSOT, 2.97 x 1.65 x 0.87mm Body, 6 Lead, 0.95mm Pitch; Supplier 1: Digi-Key; Supplier Part Number 1: ADC101C027CIMKTR-ND; Supplier 2: Digi-Key; Supplier Part Number 2: ADC101C027CIMKCT-ND; Supplier 3: Digi-Key; Supplier Part Number 3: ADC101C027CIMKDKR-ND; Supplier 4: Farnell; Supplier Part Number 4: 1674013; RoHS: Y; PinCount: 6; Code_JEDEC: MO-193-AA; Code_IPC: SOT26A-6; ComponentLink1Description: ADC101C027 Datasheet; ComponentLink1URL: http://www.national.com/ds/AD/ADC101C027.pdf; ComponentLink2Description: ADC101C027 Web Page; ComponentLink2URL: http://www.national.com/pf/AD/ADC101C027.html; ComponentLink3Description: MK06A Package Page; ComponentLink3URL: http://www.national.com/packaging/folders/mk06a.html
footprint MK06A_N (SOT23, 6-Leads, Body 3.0x1.7mm, Pitch 0.95mm, Lead Span 2.9mm, IPC Medium Density)
footprint MK06A_L (SOT23, 6-Leads, Body 3.0x1.7mm, Pitch 0.95mm, Lead Span 2.9mm, IPC High Density)
footprint MK06A_M (SOT23, 6-Leads, Body 3.0x1.7mm, Pitch 0.95mm, Lead Span 2.9mm, IPC Low Density)
pins: 1 VA (power), 2 GND (power), 3 VIN (in), 4 ADDR (in), 5 SCL (in), 6 SDA (io)

## ADC101C027CIMKX
designator U?
I2C-Compatible, 10-Bit Analog-to-Digital Converter (ADC) with Alert Function, 6-pin Tiny SOT23; PartNumber: ADC101C027CIMKX; Manufacturer: National Semiconductor; PackageTopMarking: X31C*XTT; CompType: ADC IC; Published: 4-Dec-2008; DatasheetVersion: Feb-2008; PackageVersion: revE, Nov-2008; PackageReference: MK06A; Publisher: Altium Limited; PackageDescription: Molded TSOT, 2.97 x 1.65 x 0.87mm Body, 6 Lead, 0.95mm Pitch; RoHS: Y; PinCount: 6; Code_JEDEC: MO-193-AA; Code_IPC: SOT26A-6; ComponentLink1Description: ADC101C027 Datasheet; ComponentLink1URL: http://www.national.com/ds/AD/ADC101C027.pdf; ComponentLink2Description: ADC101C027 Web Page; ComponentLink2URL: http://www.national.com/pf/AD/ADC101C027.html; ComponentLink3Description: MK06A Package Page; ComponentLink3URL: http://www.national.com/packaging/folders/mk06a.html
footprint MK06A_N (SOT23, 6-Leads, Body 3.0x1.7mm, Pitch 0.95mm, Lead Span 2.9mm, IPC Medium Density)
footprint MK06A_L (SOT23, 6-Leads, Body 3.0x1.7mm, Pitch 0.95mm, Lead Span 2.9mm, IPC High Density)
footprint MK06A_M (SOT23, 6-Leads, Body 3.0x1.7mm, Pitch 0.95mm, Lead Span 2.9mm, IPC Low Density)
pins: 1 VA (power), 2 GND (power), 3 VIN (in), 4 ADDR (in), 5 SCL (in), 6 SDA (io)

## ADC101C027CIMKX/NOPB
designator U?
I2C-Compatible, 10-Bit Analog-to-Digital Converter (ADC) with Alert Function, 6-pin Tiny SOT23, Pb-Free; PartNumber: ADC101C027CIMKX/NOPB; Manufacturer: National Semiconductor; PackageTopMarking: X32C*XTT; PowerWise: N; CompType: ADC IC; Published: 1-Mar-2010; DatasheetVersion: Feb-2008; PackageVersion: revE, Nov-2008; PackageReference: MK06A; Publisher: Altium Limited; PackageDescription: Molded TSOT, 2.97 x 1.65 x 0.87mm Body, 6 Lead, 0.95mm Pitch; Supplier 1: Digi-Key; Supplier Part Number 1: ADC101C027CIMKX-ND; RoHS: Y; PinCount: 6; Code_JEDEC: MO-193-AA; Code_IPC: SOT26A-6; ComponentLink1Description: ADC101C027 Datasheet; ComponentLink1URL: http://www.national.com/ds/AD/ADC101C027.pdf; ComponentLink2Description: ADC101C027 Web Page; ComponentLink2URL: http://www.national.com/pf/AD/ADC101C027.html; ComponentLink3Description: MK06A Package Page; ComponentLink3URL: http://www.national.com/packaging/folders/mk06a.html
footprint MK06A_N (SOT23, 6-Leads, Body 3.0x1.7mm, Pitch 0.95mm, Lead Span 2.9mm, IPC Medium Density)
footprint MK06A_L (SOT23, 6-Leads, Body 3.0x1.7mm, Pitch 0.95mm, Lead Span 2.9mm, IPC High Density)
footprint MK06A_M (SOT23, 6-Leads, Body 3.0x1.7mm, Pitch 0.95mm, Lead Span 2.9mm, IPC Low Density)
pins: 1 VA (power), 2 GND (power), 3 VIN (in), 4 ADDR (in), 5 SCL (in), 6 SDA (io)

## ADC101S021CIMF
designator U?
Single Channel, 50 to 200 kSPS, 10-Bit A/D Converter, 6-pin SOT-23; PartNumber: ADC101S021CIMF; Manufacturer: National Semiconductor; PackageTopMarking: X08C*XTT; PowerWise: Y; CompType: ADC IC; Published: 4-Dec-2008; DatasheetVersion: Jan-2010; PackageVersion: revC, Sep-2005; PackageReference: MF06A; Publisher: Altium Limited; PackageDescription: Molded SOT-23, .115 x .063 x .040in Body, 6 Lead, .0375in in Pitch; Supplier 1: Farnell; Supplier Part Number 1: 1250028; RoHS: N; PinCount: 6; Code_JEDEC: MO-178-AB; Code_IPC: SOT26A-6; ComponentLink1Description: ADC101S021 Datasheet; ComponentLink1URL: http://www.national.com/ds/AD/ADC101S021.pdf; ComponentLink2Description: ADC101S021 Web Page; ComponentLink2URL: http://www.national.com/pf/AD/ADC101S021.html; ComponentLink3Description: MF06A Package Page; ComponentLink3URL: http://www.national.com/packaging/folders/mf06a.html
footprint MF06A_N (SOT23, 6-Leads, Body 2.9x1.6mm, Pitch 0.95mm, Lead Span 2.8mm, IPC Medium Density)
footprint MF06A_L (SOT23, 6-Leads, Body 2.9x1.6mm, Pitch 0.95mm, Lead Span 2.8mm, IPC High Density)
footprint MF06A_M (SOT23, 6-Leads, Body 2.9x1.6mm, Pitch 0.95mm, Lead Span 2.8mm, IPC Low Density)
pins: 1 VA (power), 2 GND (power), 3 VIN (in), 4 SCLK (in), 5 SDATA (out), 6 ~{CS} (in)

## ADC101S021CIMF/NOPB
designator U?
Single Channel, 50 to 200 kSPS, 10-Bit A/D Converter, 6-pin SOT-23, Pb-Free; PartNumber: ADC101S021CIMF/NOPB; Manufacturer: National Semiconductor; PackageTopMarking: X08C*XTT; PowerWise: Y; CompType: ADC IC; Published: 1-Mar-2010; DatasheetVersion: Jan-2010; PackageVersion: revC, Sep-2005; PackageReference: MF06A; Publisher: Altium Limited; PackageDescription: Molded SOT-23, .115 x .063 x .040in Body, 6 Lead, .0375in in Pitch; Supplier 1: Digi-Key; Supplier Part Number 1: ADC101S021CIMFTR-ND; Supplier 2: Digi-Key; Supplier Part Number 2: ADC101S021CIMFCT-ND; Supplier 3: Digi-Key; Supplier Part Number 3: ADC101S021CIMFDKR-ND; RoHS: Y; PinCount: 6; Code_JEDEC: MO-178-AB; Code_IPC: SOT26A-6; ComponentLink1Description: ADC101S021 Datasheet; ComponentLink1URL: http://www.national.com/ds/AD/ADC101S021.pdf; ComponentLink2Description: ADC101S021 Web Page; ComponentLink2URL: http://www.national.com/pf/AD/ADC101S021.html; ComponentLink3Description: MF06A Package Page; ComponentLink3URL: http://www.national.com/packaging/folders/mf06a.html
footprint MF06A_N (SOT23, 6-Leads, Body 2.9x1.6mm, Pitch 0.95mm, Lead Span 2.8mm, IPC Medium Density)
footprint MF06A_L (SOT23, 6-Leads, Body 2.9x1.6mm, Pitch 0.95mm, Lead Span 2.8mm, IPC High Density)
footprint MF06A_M (SOT23, 6-Leads, Body 2.9x1.6mm, Pitch 0.95mm, Lead Span 2.8mm, IPC Low Density)
pins: 1 VA (power), 2 GND (power), 3 VIN (in), 4 SCLK (in), 5 SDATA (out), 6 ~{CS} (in)

## ADC101S021CIMFX
designator U?
Single Channel, 50 to 200 kSPS, 10-Bit A/D Converter, 6-pin SOT-23; PartNumber: ADC101S021CIMFX; Manufacturer: National Semiconductor; PackageTopMarking: X08C*XTT; PowerWise: Y; CompType: ADC IC; Published: 1-Mar-2010; DatasheetVersion: Jan-2010; PackageVersion: revC, Sep-2005; PackageReference: MF06A; Publisher: Altium Limited; PackageDescription: Molded SOT-23, .115 x .063 x .040in Body, 6 Lead, .0375in in Pitch; RoHS: N; PinCount: 6; Code_JEDEC: MO-178-AB; Code_IPC: SOT26A-6; ComponentLink1Description: ADC101S021 Datasheet; ComponentLink1URL: http://www.national.com/ds/AD/ADC101S021.pdf; ComponentLink2Description: ADC101S021 Web Page; ComponentLink2URL: http://www.national.com/pf/AD/ADC101S021.html; ComponentLink3Description: MF06A Package Page; ComponentLink3URL: http://www.national.com/packaging/folders/mf06a.html
footprint MF06A_N (SOT23, 6-Leads, Body 2.9x1.6mm, Pitch 0.95mm, Lead Span 2.8mm, IPC Medium Density)
footprint MF06A_L (SOT23, 6-Leads, Body 2.9x1.6mm, Pitch 0.95mm, Lead Span 2.8mm, IPC High Density)
footprint MF06A_M (SOT23, 6-Leads, Body 2.9x1.6mm, Pitch 0.95mm, Lead Span 2.8mm, IPC Low Density)
pins: 1 VA (power), 2 GND (power), 3 VIN (in), 4 SCLK (in), 5 SDATA (out), 6 ~{CS} (in)

## ADC101S021CISD
designator U?
Single Channel, 50 to 200 kSPS, 10-Bit A/D Converter, 7-pin LLP; PartNumber: ADC101S021CISD; Manufacturer: National Semiconductor; PackageTopMarking: XTT*X8C; PowerWise: Y; CompType: ADC IC; Published: 4-Dec-2008; DatasheetVersion: Jan-2010; PackageVersion: revA, Nov-2003; PackageReference: SDB06A; Publisher: Altium Limited; PackageDescription: LLP, Plastic, Dual, 2.2 x 2.5 x 0.8mm Body, 6 Lead, 0.65mm Pitch, No Pullback; Supplier 1: Farnell; Supplier Part Number 1: 1312528; RoHS: N; PinCount: 6; ComponentLink1Description: ADC101S021 Datasheet; ComponentLink1URL: http://www.national.com/ds/AD/ADC101S021.pdf; ComponentLink2Description: ADC101S021 Web Page; ComponentLink2URL: http://www.national.com/pf/AD/ADC101S021.html; ComponentLink3Description: SDB06A Package Page; ComponentLink3URL: http://www.national.com/packaging/folders/sdb06a.html
footprint SDB06A (SON, 6-Leads, Body 2.2x2.5mm, Pitch 0.65mm, NSC Recommended (SC-70 Land))
pins: 1 VA (power), 2 GND (power), 3 VIN (in), 4 SCLK (in), 5 SDATA (out), 6 ~{CS} (in), 7 GND (power)

## ADC101S021CISDX
designator U?
Single Channel, 50 to 200 kSPS, 10-Bit A/D Converter, 6-pin LLP; PartNumber: ADC101S021CISDX; Manufacturer: National Semiconductor; PackageTopMarking: XTT*X8C; PowerWise: Y; CompType: ADC IC; Published: 1-Mar-2010; DatasheetVersion: Jan-2010; PackageVersion: revA, Nov-2003; PackageReference: SDB06A; Publisher: Altium Limited; PackageDescription: LLP, Plastic, Dual, 2.2 x 2.5 x 0.8mm Body, 6 Lead, 0.65mm Pitch, No Pullback; RoHS: N; PinCount: 6; ComponentLink1Description: ADC101S021 Datasheet; ComponentLink1URL: http://www.national.com/ds/AD/ADC101S021.pdf; ComponentLink2Description: ADC101S021 Web Page; ComponentLink2URL: http://www.national.com/pf/AD/ADC101S021.html; ComponentLink3Description: SDB06A Package Page; ComponentLink3URL: http://www.national.com/packaging/folders/sdb06a.html
footprint SDB06A (SON, 6-Leads, Body 2.2x2.5mm, Pitch 0.65mm, NSC Recommended (SC-70 Land))
pins: 1 VA (power), 2 GND (power), 3 VIN (in), 4 SCLK (in), 5 SDATA (out), 6 ~{CS} (in), 7 GND (power)

## ADC101S051CIMF
designator U?
Single Channel, 200 to 500 kSPS, 10-Bit A/D Converter, 6-pin SOT-23; PartNumber: ADC101S051CIMF; Manufacturer: National Semiconductor; PackageTopMarking: X14C*XTT; PowerWise: Y; CompType: ADC IC; Published: 4-Dec-2008; DatasheetVersion: Jan-2010; PackageVersion: revC, Sep-2005; PackageReference: MF06A; Publisher: Altium Limited; PackageDescription: Molded SOT-23, .115 x .063 x .040in Body, 6 Lead, .0375in in Pitch; Supplier 1: Farnell; Supplier Part Number 1: 1250029; RoHS: N; PinCount: 6; Code_JEDEC: MO-178-AB; Code_IPC: SOT26A-6; ComponentLink1Description: ADC101S051 Datasheet; ComponentLink1URL: http://www.national.com/ds/AD/ADC101S051.pdf; ComponentLink2Description: ADC101S051 Web Page; ComponentLink2URL: http://www.national.com/pf/AD/ADC101S051.html; ComponentLink3Description: MF06A Package Page; ComponentLink3URL: http://www.national.com/packaging/folders/mf06a.html
footprint MF06A_N (SOT23, 6-Leads, Body 2.9x1.6mm, Pitch 0.95mm, Lead Span 2.8mm, IPC Medium Density)
footprint MF06A_L (SOT23, 6-Leads, Body 2.9x1.6mm, Pitch 0.95mm, Lead Span 2.8mm, IPC High Density)
footprint MF06A_M (SOT23, 6-Leads, Body 2.9x1.6mm, Pitch 0.95mm, Lead Span 2.8mm, IPC Low Density)
pins: 1 VA (power), 2 GND (power), 3 VIN (in), 4 SCLK (in), 5 SDATA (out), 6 ~{CS} (in)

## ADC101S051CIMF/NOPB
designator U?
Single Channel, 200 to 500 kSPS, 10-Bit A/D Converter, 6-pin SOT-23, Pb-Free; PartNumber: ADC101S051CIMF/NOPB; Manufacturer: National Semiconductor; PackageTopMarking: X14C*XTT; PowerWise: Y; CompType: ADC IC; Published: 1-Mar-2010; DatasheetVersion: Jan-2010; PackageVersion: revC, Sep-2005; PackageReference: MF06A; Publisher: Altium Limited; PackageDescription: Molded SOT-23, .115 x .063 x .040in Body, 6 Lead, .0375in in Pitch; Supplier 1: Digi-Key; Supplier Part Number 1: ADC101S051CIMFTR-ND; Supplier 2: Digi-Key; Supplier Part Number 2: ADC101S051CIMFCT-ND; Supplier 3: Digi-Key; Supplier Part Number 3: ADC101S051CIMFDKR-ND; RoHS: Y; PinCount: 6; Code_JEDEC: MO-178-AB; Code_IPC: SOT26A-6; ComponentLink1Description: ADC101S051 Datasheet; ComponentLink1URL: http://www.national.com/ds/AD/ADC101S051.pdf; ComponentLink2Description: ADC101S051 Web Page; ComponentLink2URL: http://www.national.com/pf/AD/ADC101S051.html; ComponentLink3Description: MF06A Package Page; ComponentLink3URL: http://www.national.com/packaging/folders/mf06a.html
footprint MF06A_N (SOT23, 6-Leads, Body 2.9x1.6mm, Pitch 0.95mm, Lead Span 2.8mm, IPC Medium Density)
footprint MF06A_L (SOT23, 6-Leads, Body 2.9x1.6mm, Pitch 0.95mm, Lead Span 2.8mm, IPC High Density)
footprint MF06A_M (SOT23, 6-Leads, Body 2.9x1.6mm, Pitch 0.95mm, Lead Span 2.8mm, IPC Low Density)
pins: 1 VA (power), 2 GND (power), 3 VIN (in), 4 SCLK (in), 5 SDATA (out), 6 ~{CS} (in)

## ADC101S051CIMFX
designator U?
Single Channel, 200 to 500 kSPS, 10-Bit A/D Converter, 6-pin SOT-23; PartNumber: ADC101S051CIMFX; Manufacturer: National Semiconductor; PackageTopMarking: X14C*XTT; PowerWise: Y; CompType: ADC IC; Published: 1-Mar-2010; DatasheetVersion: Jan-2010; PackageVersion: revC, Sep-2005; PackageReference: MF06A; Publisher: Altium Limited; PackageDescription: Molded SOT-23, .115 x .063 x .040in Body, 6 Lead, .0375in in Pitch; RoHS: N; PinCount: 6; Code_JEDEC: MO-178-AB; Code_IPC: SOT26A-6; ComponentLink1Description: ADC101S051 Datasheet; ComponentLink1URL: http://www.national.com/ds/AD/ADC101S051.pdf; ComponentLink2Description: ADC101S051 Web Page; ComponentLink2URL: http://www.national.com/pf/AD/ADC101S051.html; ComponentLink3Description: MF06A Package Page; ComponentLink3URL: http://www.national.com/packaging/folders/mf06a.html
footprint MF06A_N (SOT23, 6-Leads, Body 2.9x1.6mm, Pitch 0.95mm, Lead Span 2.8mm, IPC Medium Density)
footprint MF06A_L (SOT23, 6-Leads, Body 2.9x1.6mm, Pitch 0.95mm, Lead Span 2.8mm, IPC High Density)
footprint MF06A_M (SOT23, 6-Leads, Body 2.9x1.6mm, Pitch 0.95mm, Lead Span 2.8mm, IPC Low Density)
pins: 1 VA (power), 2 GND (power), 3 VIN (in), 4 SCLK (in), 5 SDATA (out), 6 ~{CS} (in)

## ADC101S051CISD
designator U?
Single Channel, 200 to 500 kSPS, 10-Bit A/D Converter, 7-pin LLP; PartNumber: ADC101S051CISD; Manufacturer: National Semiconductor; PackageTopMarking: XTT*X5C; PowerWise: Y; CompType: ADC IC; Published: 4-Dec-2008; DatasheetVersion: Jan-2010; PackageVersion: revA, Nov-2003; PackageReference: SDB06A; Publisher: Altium Limited; PackageDescription: LLP, Plastic, Dual, 2.2 x 2.5 x 0.8mm Body, 6 Lead, 0.65mm Pitch, No Pullback; Supplier 1: Farnell; Supplier Part Number 1: 1312529; RoHS: N; PinCount: 6; ComponentLink1Description: ADC101S051 Datasheet; ComponentLink1URL: http://www.national.com/ds/AD/ADC101S051.pdf; ComponentLink2Description: ADC101S051 Web Page; ComponentLink2URL: http://www.national.com/pf/AD/ADC101S051.html; ComponentLink3Description: SDB06A Package Page; ComponentLink3URL: http://www.national.com/packaging/folders/sdb06a.html
footprint SDB06A (SON, 6-Leads, Body 2.2x2.5mm, Pitch 0.65mm, NSC Recommended (SC-70 Land))
pins: 1 VA (power), 2 GND (power), 3 VIN (in), 4 SCLK (in), 5 SDATA (out), 6 ~{CS} (in), 7 GND (power)

## ADC101S051CISDX
designator U?
Single Channel, 200 to 500 kSPS, 10-Bit A/D Converter, 6-pin LLP; PartNumber: ADC101S051CISDX; Manufacturer: National Semiconductor; PackageTopMarking: XTT*X5C; PowerWise: Y; CompType: ADC IC; Published: 1-Mar-2010; DatasheetVersion: Jan-2010; PackageVersion: revA, Nov-2003; PackageReference: SDB06A; Publisher: Altium Limited; PackageDescription: LLP, Plastic, Dual, 2.2 x 2.5 x 0.8mm Body, 6 Lead, 0.65mm Pitch, No Pullback; RoHS: N; PinCount: 6; ComponentLink1Description: ADC101S051 Datasheet; ComponentLink1URL: http://www.national.com/ds/AD/ADC101S051.pdf; ComponentLink2Description: ADC101S051 Web Page; ComponentLink2URL: http://www.national.com/pf/AD/ADC101S051.html; ComponentLink3Description: SDB06A Package Page; ComponentLink3URL: http://www.national.com/packaging/folders/sdb06a.html
footprint SDB06A (SON, 6-Leads, Body 2.2x2.5mm, Pitch 0.65mm, NSC Recommended (SC-70 Land))
pins: 1 VA (power), 2 GND (power), 3 VIN (in), 4 SCLK (in), 5 SDATA (out), 6 ~{CS} (in), 7 GND (power)

## ADC101S101CIMF
designator U?
1MSPS, 10-Bit A/D Converter, 6-pin SOT-23; PartNumber: ADC101S101CIMF; Manufacturer: National Semiconductor; PackageTopMarking: X02C*XTT; PowerWise: Y; CompType: ADC IC; Published: 4-Dec-2008; DatasheetVersion: Jan-2010; PackageVersion: revC, Sep-2005; PackageReference: MF06A; Publisher: Altium Limited; PackageDescription: Molded SOT-23, .115 x .063 x .040in Body, 6 Lead, .0375in in Pitch; Supplier 1: Farnell; Supplier Part Number 1: 1007985; RoHS: N; PinCount: 6; Code_JEDEC: MO-178-AB; Code_IPC: SOT26A-6; ComponentLink1Description: ADC101S101 Datasheet; ComponentLink1URL: http://www.national.com/ds/AD/ADC101S101.pdf; ComponentLink2Description: ADC101S101 Web Page; ComponentLink2URL: http://www.national.com/pf/AD/ADC101S101.html; ComponentLink3Description: MF06A Package Page; ComponentLink3URL: http://www.national.com/packaging/folders/mf06a.html
footprint MF06A_N (SOT23, 6-Leads, Body 2.9x1.6mm, Pitch 0.95mm, Lead Span 2.8mm, IPC Medium Density)
footprint MF06A_L (SOT23, 6-Leads, Body 2.9x1.6mm, Pitch 0.95mm, Lead Span 2.8mm, IPC High Density)
footprint MF06A_M (SOT23, 6-Leads, Body 2.9x1.6mm, Pitch 0.95mm, Lead Span 2.8mm, IPC Low Density)
pins: 1 VA (power), 2 GND (power), 3 VIN (in), 4 SCLK (in), 5 SDATA (out), 6 ~{CS} (in)

## ADC101S101CIMF/NOPB
designator U?
1MSPS, 10-Bit A/D Converter in 6-pin SOT-23, Pb-Free; PartNumber: ADC101S101CIMF/NOPB; Manufacturer: National Semiconductor; PackageTopMarking: X02C*XTT; PowerWise: Y; CompType: ADC IC; Published: 1-Mar-2010; DatasheetVersion: Jan-2010; PackageVersion: revC, Sep-2005; PackageReference: MF06A; Publisher: Altium Limited; PackageDescription: Molded SOT-23, .115 x .063 x .040in Body, 6 Lead, .0375in in Pitch; Supplier 1: Digi-Key; Supplier Part Number 1: ADC101S101CIMFTR-ND; Supplier 2: Digi-Key; Supplier Part Number 2: ADC101S101CIMFCT-ND; Supplier 3: Digi-Key; Supplier Part Number 3: ADC101S101CIMFDKR-ND; Supplier 4: Farnell; Supplier Part Number 4: 1149930; RoHS: Y; PinCount: 6; Code_JEDEC: MO-178-AB; Code_IPC: SOT26A-6; ComponentLink1Description: ADC101S101 Datasheet; ComponentLink1URL: http://www.national.com/ds/AD/ADC101S101.pdf; ComponentLink2Description: ADC101S101 Web Page; ComponentLink2URL: http://www.national.com/pf/AD/ADC101S101.html; ComponentLink3Description: MF06A Package Page; ComponentLink3URL: http://www.national.com/packaging/folders/mf06a.html
footprint MF06A_N (SOT23, 6-Leads, Body 2.9x1.6mm, Pitch 0.95mm, Lead Span 2.8mm, IPC Medium Density)
footprint MF06A_L (SOT23, 6-Leads, Body 2.9x1.6mm, Pitch 0.95mm, Lead Span 2.8mm, IPC High Density)
footprint MF06A_M (SOT23, 6-Leads, Body 2.9x1.6mm, Pitch 0.95mm, Lead Span 2.8mm, IPC Low Density)
pins: 1 VA (power), 2 GND (power), 3 VIN (in), 4 SCLK (in), 5 SDATA (out), 6 ~{CS} (in)

## ADC101S101CIMFX
designator U?
1MSPS, 10-Bit A/D Converter in 6-pin SOT-23; PartNumber: ADC101S101CIMFX; Manufacturer: National Semiconductor; PackageTopMarking: X02C*XTT; PowerWise: Y; CompType: ADC IC; Published: 1-Mar-2010; DatasheetVersion: Jan-2010; PackageVersion: revC, Sep-2005; PackageReference: MF06A; Publisher: Altium Limited; PackageDescription: Molded SOT-23, .115 x .063 x .040in Body, 6 Lead, .0375in in Pitch; RoHS: N; PinCount: 6; Code_JEDEC: MO-178-AB; Code_IPC: SOT26A-6; ComponentLink1Description: ADC101S101 Datasheet; ComponentLink1URL: http://www.national.com/ds/AD/ADC101S101.pdf; ComponentLink2Description: ADC101S101 Web Page; ComponentLink2URL: http://www.national.com/pf/AD/ADC101S101.html; ComponentLink3Description: MF06A Package Page; ComponentLink3URL: http://www.national.com/packaging/folders/mf06a.html
footprint MF06A_N (SOT23, 6-Leads, Body 2.9x1.6mm, Pitch 0.95mm, Lead Span 2.8mm, IPC Medium Density)
footprint MF06A_L (SOT23, 6-Leads, Body 2.9x1.6mm, Pitch 0.95mm, Lead Span 2.8mm, IPC High Density)
footprint MF06A_M (SOT23, 6-Leads, Body 2.9x1.6mm, Pitch 0.95mm, Lead Span 2.8mm, IPC Low Density)
pins: 1 VA (power), 2 GND (power), 3 VIN (in), 4 SCLK (in), 5 SDATA (out), 6 ~{CS} (in)